# Altium schematic symbol library CT3151-0.SchLib: 1 symbol
Pins are listed as number, name and electrical type; pins without a type are passive.

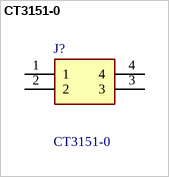
[diagram p0: symbol CT3151-0]

## CT3151-0
designator J?
4mm Safety Jack Horizontal PCB Mount; Manufacturer_Name: Cal Test; Geometry.Height: 13.5mm; Manufacturer_Part_Number: CT3151-0; Mouser Part Number: 510-CT3151-0; Mouser Price/Stock: https://www.mouser.co.uk/ProductDetail/Cal-Test/CT3151-0?qs=vgjKjNJexTi7zzqDU3Xrcg%3D%3D; Arrow Part Number: *; Arrow Price/Stock: *; Datasheet Link: https://componentsearchengine.com/Datasheets/1/CT3151-0.pdf
footprint CT31510
pins: 1, 2, 3, 4